# EAGLE library part JP6QE (library New Stuff)
JUMPER
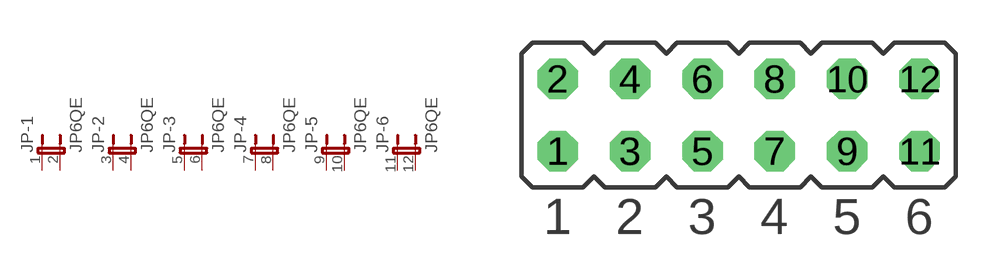
[diagram p3: symbol with the pads of JP6Q; footprint JP6Q]

Designator prefix JP; gates -1=JP2E -2=JP2E -3=JP2E -4=JP2E -5=JP2E -6=JP2E

## JP6QE  [JP6Q]
1  -1:1  pas
2  -1:2  pas
3  -2:1  pas
4  -2:2  pas
5  -3:1  pas
6  -3:2  pas
7  -4:1  pas
8  -4:2  pas
9  -5:1  pas
10  -5:2  pas
11  -6:1  pas
12  -6:2  pas

## Footprint JP6Q (pad centres in mm)
JUMPER
drill 0.914 octagon: 1 -6.35,-1.27; 2 -6.35,1.27; 3 -3.81,-1.27; 4 -3.81,1.27; 5 -1.27,-1.27; 6 -1.27,1.27; 7 1.27,-1.27; 8 1.27,1.27; 9 3.81,-1.27; 10 3.81,1.27; 11 6.35,-1.27; 12 6.35,1.27